# EAGLE library part MOLEX_0015246060 (library gost_con_mini-fit)
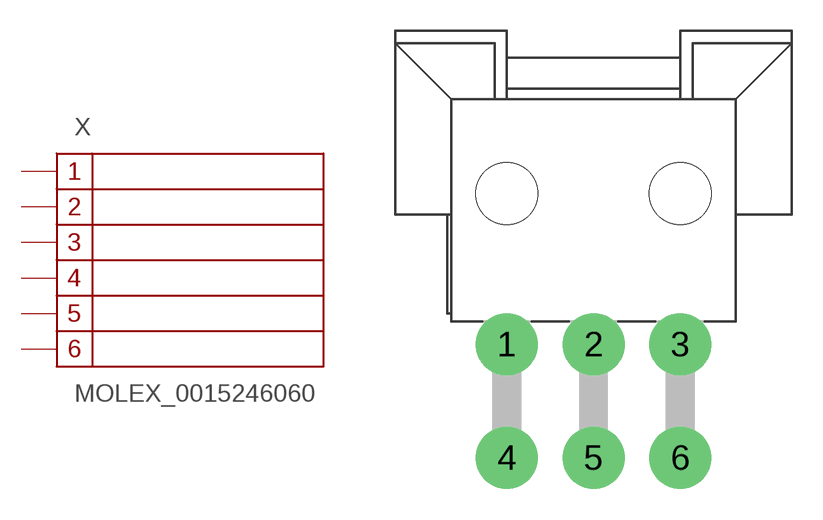
[diagram p2: symbol with the pads of MOLEX_0015246060; footprint MOLEX_0015246060]

Designator prefix X

## MOLEX_0015246060  [MOLEX_0015246060]
1  1
2  2
3  3
4  4
5  5
6  6

## Footprint MOLEX_0015246060 (pad centres in mm)
drill 1.8 pad 3: 1 -4.2,0; 2 0,0; 3 4.2,0; 4 -4.2,-5.5; 5 0,-5.5; 6 4.2,-5.5
hole 3 at 4.2,7.3
hole 3 at -4.2,7.3